# EAGLE library part TEENSY-3.5/3.6-BREAKOUT-REV-A-UNO (library Teensy-Breakout-Eagle-Library)
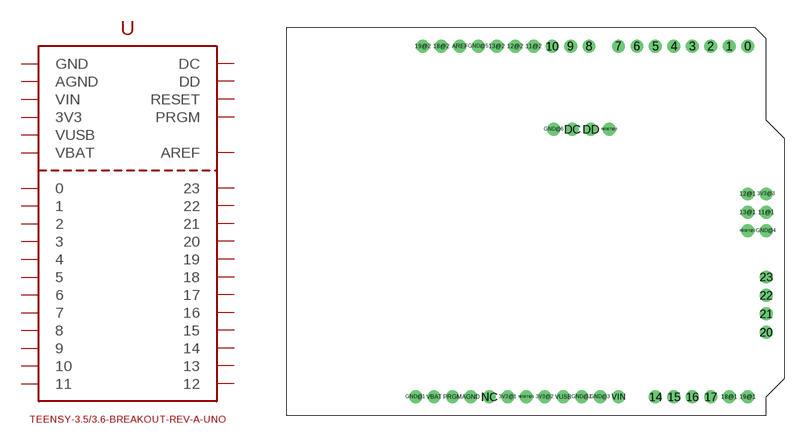
[diagram p9: symbol with the pads of TEENSY-3.5/3.6-BREAKOUT-REV-A-UNO; footprint TEENSY-3.5/3.6-BREAKOUT-REV-A-UNO]

Designator prefix -

## TEENSY-3.5/3.6-BREAKOUT-REV-A-UNO  [TEENSY-3.5/3.6-BREAKOUT-REV-A-UNO]
0  0
1  1
2  2
3  3
3V3@1  3V3
3V3@2  3V3
3V3@3  3V3
4  4
5  5
6  6
7  7
8  8
9  9
10  10
11@1  11
11@2  11
12@1  12
12@2  12
13@1  13
13@2  13
14  14
15  15
16  16
17  17
18@1  18
18@2  18
19@1  19
19@2  19
20  20
21  21
22  22
23  23
AGND  AGND
AREF  AREF
DC  DC
DD  DD
GND@1  GND
GND@2  GND
GND@3  GND
GND@4  GND
GND@5  GND
GND@6  GND
PRGM  PRGM
RESET@1  RESET
RESET@2  RESET
RESET@3  RESET
VBAT  VBAT
VIN  VIN
VUSB  VUSB

## Footprint TEENSY-3.5/3.6-BREAKOUT-REV-A-UNO (pad centres in mm)
drill 1.016 pad 1.778: 0 63.5,50.8; 1 60.96,50.8; 2 58.42,50.8; 3 55.88,50.8; 3V3@1 30.48,2.54; 3V3@2 35.56,2.54; 3V3@3 66.04,30.48; 4 53.34,50.8; 5 50.8,50.8; 6 48.26,50.8; 7 45.72,50.8; 8 41.656,50.8; 9 39.116,50.8; 10 36.576,50.8; 11@1 66.04,27.94; 11@2 34.036,50.8; 12@1 63.5,30.48; 12@2 31.496,50.8; 13@1 63.5,27.94; 13@2 28.956,50.8; 14 50.8,2.54; 15 53.34,2.54; 16 55.88,2.54; 17 58.42,2.54; 18@1 60.96,2.54; 18@2 21.336,50.8; 19@1 63.5,2.54; 19@2 18.796,50.8; 20 66.04,11.43; 21 66.04,13.97; 22 66.04,16.51; 23 66.04,19.05; AGND 25.4,2.54; AREF 23.876,50.8; DC 39.37,39.37; DD 41.91,39.37; GND@1 17.78,2.54; GND@2 40.64,2.54; GND@3 43.18,2.54; GND@4 66.04,25.4; GND@5 26.416,50.8; GND@6 36.83,39.37; NC 27.94,2.54; PRGM 22.86,2.54; RESET@1 33.02,2.54; RESET@2 63.5,25.4; RESET@3 44.45,39.37; VBAT 20.32,2.54; VIN 45.72,2.54; VUSB 38.1,2.54